# EAGLE library part CP2102N (library JLB6_Processor)
CP2102N USB to UART interface
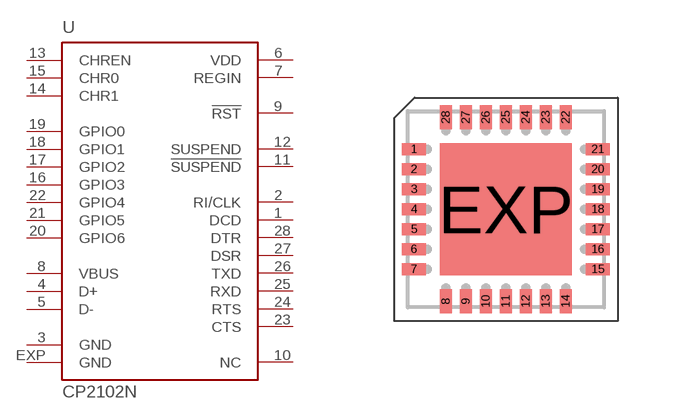
[diagram p41: symbol with the pads of QFN28; footprint QFN28]

Designator prefix U

## CP2102N  [QFN28]
1  DCD  in
2  RI/CLK
3  GND  pwr
4  D+
5  D-
6  VDD  pwr
7  REGIN  pas
8  VBUS  in
9  !RST
10  NC  nc
11  !SUSPEND  out
12  SUSPEND  out
13  CHREN
14  CHR1
15  CHR0
16  GPIO3
17  GPIO2
18  GPIO1
19  GPIO0
20  GPIO6
21  GPIO5
22  GPIO4
23  CTS  in
24  RTS  out
25  RXD  in
26  TXD  out
27  DSR  in
28  DTR  out
EXP  GND  pwr

## Footprint QFN28 (pad centres in mm)
smd 0.6 x 0.3: 1 -2.3,1.5; 2 -2.3,1; 3 -2.3,0.5; 4 -2.3,0; 5 -2.3,-0.5; 6 -2.3,-1; 7 -2.3,-1.5; 15 2.3,-1.5; 16 2.3,-1; 17 2.3,-0.5; 18 2.3,0; 19 2.3,0.5; 20 2.3,1; 21 2.3,1.5
smd 0.3 x 0.6: 8 -1.5,-2.3; 9 -1,-2.3; 10 -0.5,-2.3; 11 0,-2.3; 12 0.5,-2.3; 13 1,-2.3; 14 1.5,-2.3; 22 1.5,2.3; 23 1,2.3; 24 0.5,2.3; 25 0,2.3; 26 -0.5,2.3; 27 -1,2.3; 28 -1.5,2.3
smd 3.3 x 3.3: EXP 0,0